# EAGLE library part SCD40 (library Sensors Library)
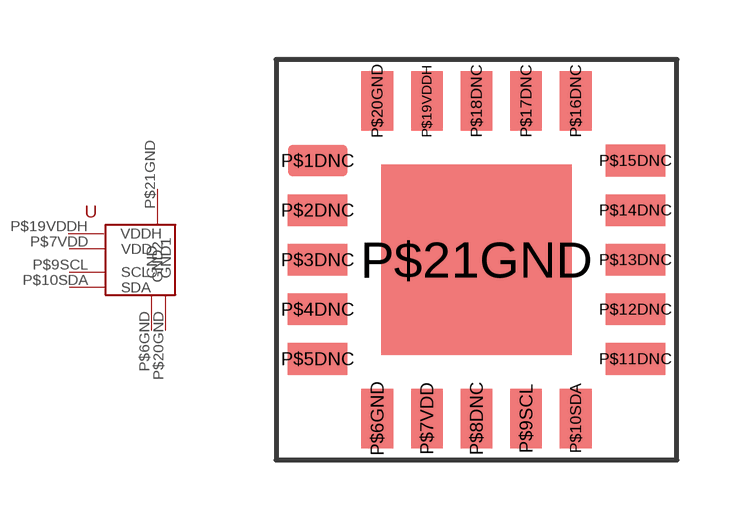
[diagram p1: symbol with the pads of SCD40; footprint SCD40]

Designator prefix -

## SCD40  [SCD40]
P$6GND  GND
P$7VDD  VDD
P$9SCL  SCL
P$10SDA  SDA
P$19VDDH  VDDH
P$20GND  GND1
P$21GND  GND2

## Footprint SCD40 (pad centres in mm)
smd 1.5 x 0.8: P$1DNC -4,2.5; P$2DNC -4,1.25; P$3DNC -4,0; P$4DNC -4,-1.25; P$5DNC -4,-2.5; P$11DNC 4,-2.5; P$12DNC 4,-1.25; P$13DNC 4,0; P$14DNC 4,1.25; P$15DNC 4,2.5
smd 0.8 x 1.5: P$6GND -2.5,-4; P$7VDD -1.25,-4; P$8DNC 0,-4; P$9SCL 1.25,-4; P$10SDA 2.5,-4; P$16DNC 2.5,4; P$17DNC 1.25,4; P$18DNC 0,4; P$19VDDH -1.25,4; P$20GND -2.5,4
smd 4.8 x 4.8: P$21GND 0,0